# EAGLE library part MQ172X-4PA(31) (library MQ172X-4PA(31))
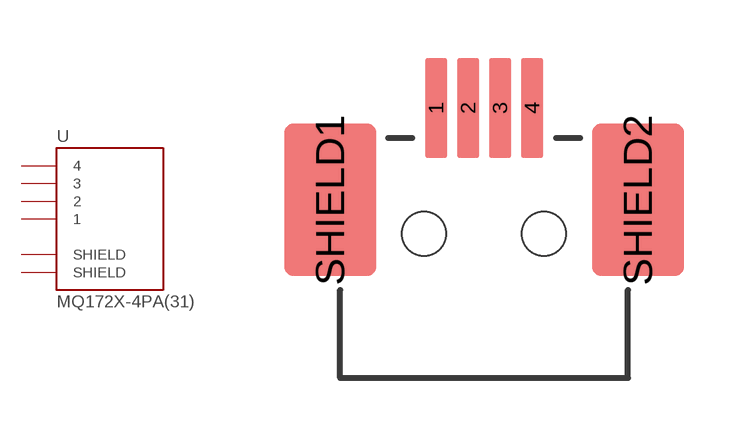
[diagram p0: symbol with the pads of MQ172X-4PA(31); footprint MQ172X-4PA(31)]

Designator prefix -

## MQ172X-4PA(31)  [MQ172X-4PA(31)]
1  1
2  2
3  3
4  4
SHIELD1  SHIELD  pwr
SHIELD2  SHIELD  pwr

## Footprint MQ172X-4PA(31) (pad centres in mm)
smd 0.55 x 2.5: 1 -1.2,6.75; 2 -0.4,6.75; 3 0.4,6.75; 4 1.2,6.75
smd 2.3 x 3.8: SHIELD1 -3.85,4.45; SHIELD2 3.85,4.45
hole 1.1 at 1.5,3.6
hole 1.1 at -1.5,3.6